# Altium integrated library Linear Technology Operational Amplifiers (LT1000).IntLib: 2280 symbols (part 28 of 79)
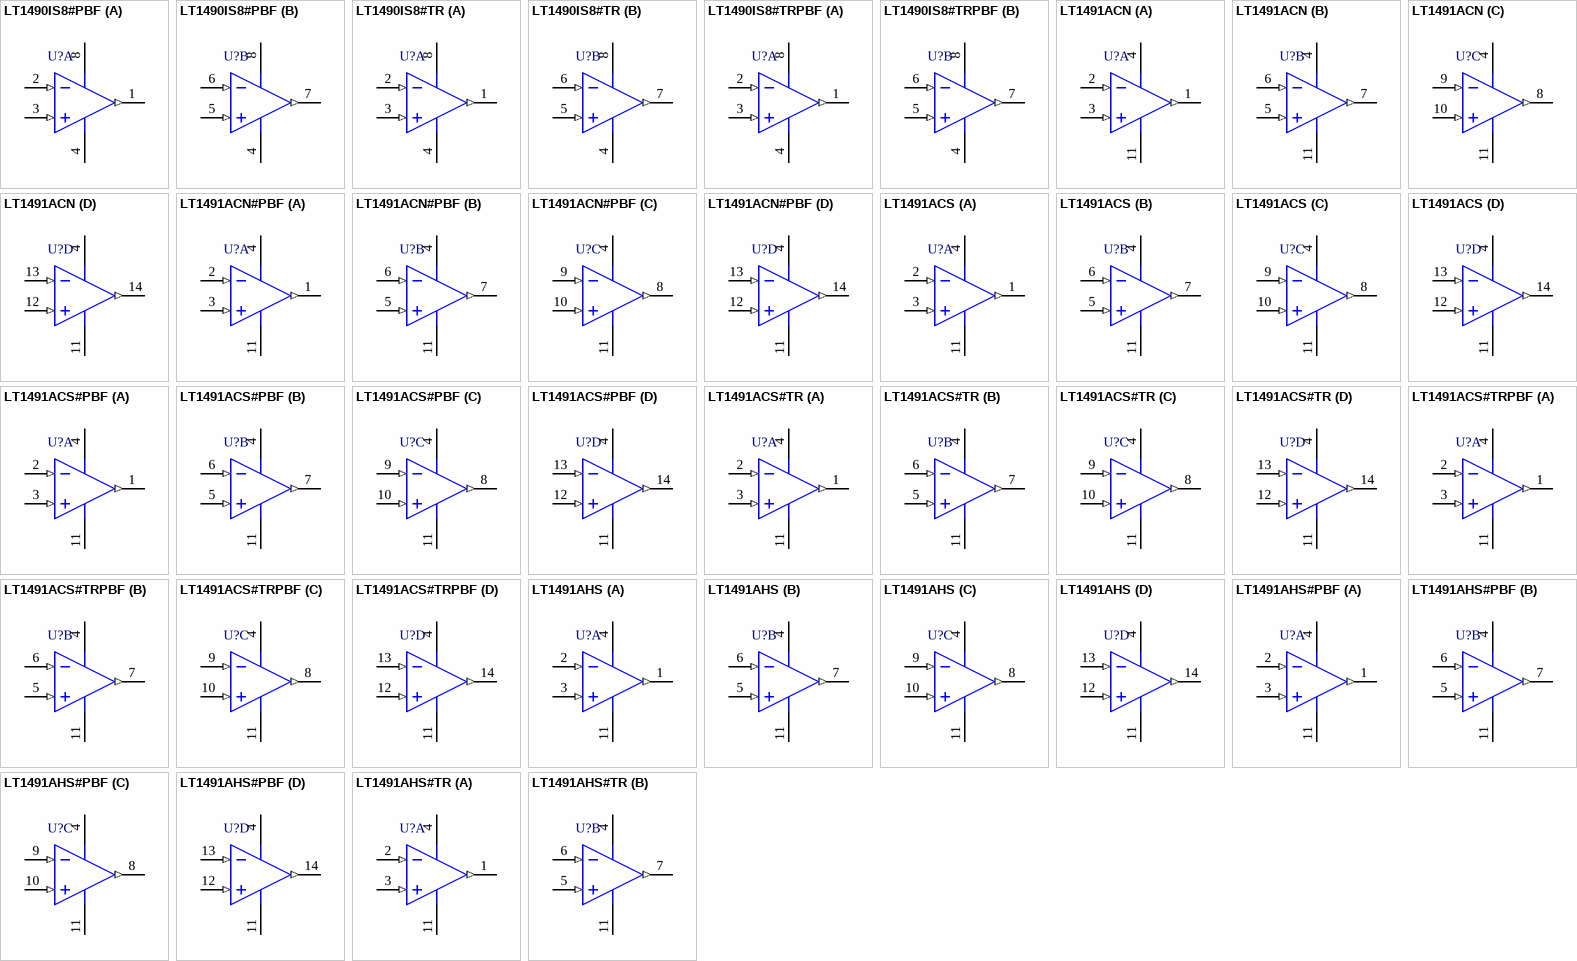
[diagram p132: symbols LT1490IS8#PBF to LT1491AHS#TR]

## LT1490IS8#TRPBF
designator U?
Dual Channel, Operational Amplifier, RRIO, Over-The-Top, 0.18 MHz Typical GBW, 0.06 V/us Typical SR, 2 to 44 V, 8-Pin SOIC (S8-8), Industrial, Pb-Free, Reel; Linear Technology Part Number: LT1490A; Manufacturer: Linear Technology; PartNumber: LT1490IS8#TRPBF; Channels (#): 2; GBW (MHz) Typical: 0.18; Is (mA) Typical: 0.04; SR (V/us) Typical: 0.06; Vos (mV) Typical: 0.11; Vs Max (V): 44; DatasheetVersion: Rev. D; PackageVersion: Rev G; PackageReference: LT-S8-8; PackageDescription: 8-Pin Plastic Small Outline, Body 4.9 x 3.9 mm, Pitch 1.27 mm; Supplier 1: Digi-Key; Supplier Part Number 1: LT1490IS8#TRPBF-ND; Packing: Reel; RoHS: Pb-Free; Type: VFB; Vs Min (V): 2; Mounting Technology: Surface Mount; ComponentLink1Description: Manufacturer URL; ComponentLink1URL: http://www.linear.com/; ComponentLink2Description: Datasheet; ComponentLink2URL: http://cds.linear.com/docs/en/datasheet/14901afd.pdf; ComponentLink3Description: Package Specification; ComponentLink3URL: http://cds.linear.com/docs/en/packaging/05081610_G_SO8.pdf
footprint LT-S8-8_N (SOIC, 8-Leads, Body 4.9x3.9mm, Pitch 1.27mm, IPC Medium Density)
footprint LT-S8-8_L (SOIC, 8-Leads, Body 4.9x3.9mm, Pitch 1.27mm, IPC High Density)
footprint LT-S8-8_M (SOIC, 8-Leads, Body 4.9x3.9mm, Pitch 1.27mm, IPC Low Density)
pins on every part: 4 V- (power), 8 V+ (power)
part A pins: 1 OUT A (out), 2 -IN A (in), 3 +IN A (in)
part B pins: 5 +IN B (in), 6 -IN B (in), 7 OUT B (out)

## LT1491ACN
designator U?
Quad Channel, Operational Amplifier, RRIO, Over-The-Top, 0.18 MHz Typical GBW, 0.06 V/us Typical SR, 2 to 44 V, 14-Pin DIP (N-14), Commercial; Linear Technology Part Number: LT1491A; Manufacturer: Linear Technology; PartNumber: LT1491ACN; Channels (#): 4; GBW (MHz) Typical: 0.18; Is (mA) Typical: 0.04; SR (V/us) Typical: 0.06; Vos (mV) Typical: 0.22; Vs Max (V): 44; Vs Min (V): 2; DatasheetVersion: Rev. D; PackageVersion: Rev I; PackageReference: LT-N-14; PackageDescription: 14-Lead PDIP, Body 19.558 x 6.477 mm, Pitch 2.54 mm; Supplier 1: Digi-Key; Supplier Part Number 1: LT1491ACN-ND; Type: VFB; Mounting Technology: Surface Mount; ComponentLink1Description: Manufacturer URL; ComponentLink1URL: http://www.linear.com/; ComponentLink2Description: Datasheet; ComponentLink2URL: http://cds.linear.com/docs/en/datasheet/14901afd.pdf; ComponentLink3Description: Package Specification; ComponentLink3URL: http://cds.linear.com/docs/en/packaging/05081510_I_N14.pdf
footprint LT-N-14 (DIP, 14-Leads, Body 19.558x6.477mm, Pitch 2.54mm)
pins on every part: 4 V+ (power), 11 V- (power)
part A pins: 1 OUTA (out), 2 -INA (in), 3 +INA (in)
part B pins: 5 +INB (in), 6 -INB (in), 7 OUTB (out)
part C pins: 8 OUTC (out), 9 -INC (in), 10 +INC (in)
part D pins: 12 +IND (in), 13 -IND (in), 14 OUTD (out)

## LT1491ACN#PBF
designator U?
Quad Channel, Operational Amplifier, RRIO, Over-The-Top, 0.18 MHz Typical GBW, 0.06 V/us Typical SR, 2 to 44 V, 14-Pin DIP (N-14), Commercial, Pb-Free; Linear Technology Part Number: LT1491A; Manufacturer: Linear Technology; PartNumber: LT1491ACN#PBF; Channels (#): 4; GBW (MHz) Typical: 0.18; Is (mA) Typical: 0.04; SR (V/us) Typical: 0.06; Vos (mV) Typical: 0.22; Vs Max (V): 44; Vs Min (V): 2; DatasheetVersion: Rev. D; PackageVersion: Rev I; PackageReference: LT-N-14; PackageDescription: 14-Lead PDIP, Body 19.558 x 6.477 mm, Pitch 2.54 mm; Supplier 1: Digi-Key; Supplier Part Number 1: LT1491ACN#PBF-ND; Supplier 2: Farnell; Supplier Part Number 2: 9560556; Supplier 3: Newark; Supplier Part Number 3: 57M4456; RoHS: Pb-Free; Type: VFB; Mounting Technology: Through Hole; ComponentLink1Description: Manufacturer URL; ComponentLink1URL: http://www.linear.com/; ComponentLink2Description: Datasheet; ComponentLink2URL: http://cds.linear.com/docs/en/datasheet/14901afd.pdf; ComponentLink3Description: Package Specification; ComponentLink3URL: http://cds.linear.com/docs/en/packaging/05081510_I_N14.pdf
footprint LT-N-14 (DIP, 14-Leads, Body 19.558x6.477mm, Pitch 2.54mm)
pins on every part: 4 V+ (power), 11 V- (power)
part A pins: 1 OUTA (out), 2 -INA (in), 3 +INA (in)
part B pins: 5 +INB (in), 6 -INB (in), 7 OUTB (out)
part C pins: 8 OUTC (out), 9 -INC (in), 10 +INC (in)
part D pins: 12 +IND (in), 13 -IND (in), 14 OUTD (out)

## LT1491ACS
designator U?
Quad Channel, Operational Amplifier, RRIO, Over-The-Top, 0.18 MHz Typical GBW, 0.06 V/us Typical SR, 2 to 44 V, 14-Pin SOIC (S-14), Commercial; Linear Technology Part Number: LT1491A; Manufacturer: Linear Technology; PartNumber: LT1491ACS; Channels (#): 4; GBW (MHz) Typical: 0.18; Is (mA) Typical: 0.04; SR (V/us) Typical: 0.06; Vos (mV) Typical: 0.22; Vs Max (V): 44; Vs Min (V): 2; DatasheetVersion: Rev. D; PackageVersion: Rev G; PackageReference: LT-S-14; PackageDescription: 14-Lead Plastic Small Outline, Body 8.65 x 3.90 mm, Pitch 1.27 mm; Supplier 1: Digi-Key; Supplier Part Number 1: LT1491ACS-ND; Supplier 2: Newark; Supplier Part Number 2: 57M4457; Type: VFB; Mounting Technology: Surface Mount; ComponentLink1Description: Manufacturer URL; ComponentLink1URL: http://www.linear.com/; ComponentLink2Description: Datasheet; ComponentLink2URL: http://cds.linear.com/docs/en/datasheet/14901afd.pdf; ComponentLink3Description: Package Specification; ComponentLink3URL: http://cds.linear.com/docs/en/packaging/05081610_G_S14.pdf
footprint LT-S-14_N (SOIC, 14-Leads, Body 8.65x3.90mm, Pitch 1.27mm, IPC Medium Density)
footprint LT-S-14_L (SOIC, 14-Leads, Body 8.65x3.90mm, Pitch 1.27mm, IPC High Density)
footprint LT-S-14_M (SOIC, 14-Leads, Body 8.65x3.90mm, Pitch 1.27mm, IPC Low Density)
pins on every part: 4 V+ (power), 11 V- (power)
part A pins: 1 OUT A (out), 2 -IN A (in), 3 +IN A (in)
part B pins: 5 +IN B (in), 6 -IN B (in), 7 OUT B (out)
part C pins: 8 OUT C (out), 9 -IN C (in), 10 +IN C (in)
part D pins: 12 +IN D (in), 13 -IN D (in), 14 OUT D (out)

## LT1491ACS#PBF
designator U?
Quad Channel, Operational Amplifier, RRIO, Over-The-Top, 0.18 MHz Typical GBW, 0.06 V/us Typical SR, 2 to 44 V, 14-Pin SOIC (S-14), Commercial, Pb-Free; Linear Technology Part Number: LT1491A; Manufacturer: Linear Technology; PartNumber: LT1491ACS#PBF; Channels (#): 4; GBW (MHz) Typical: 0.18; Is (mA) Typical: 0.04; SR (V/us) Typical: 0.06; Vos (mV) Typical: 0.22; Vs Max (V): 44; Vs Min (V): 2; DatasheetVersion: Rev. D; PackageVersion: Rev G; PackageReference: LT-S-14; PackageDescription: 14-Lead Plastic Small Outline, Body 8.65 x 3.90 mm, Pitch 1.27 mm; Supplier 1: Digi-Key; Supplier Part Number 1: LT1491ACS#PBF-ND; Supplier 2: Farnell; Supplier Part Number 2: 1330667; Supplier 3: Newark; Supplier Part Number 3: 57M4458; RoHS: Pb-Free; Type: VFB; Mounting Technology: Surface Mount; ComponentLink1Description: Manufacturer URL; ComponentLink1URL: http://www.linear.com/; ComponentLink2Description: Datasheet; ComponentLink2URL: http://cds.linear.com/docs/en/datasheet/14901afd.pdf; ComponentLink3Description: Package Specification; ComponentLink3URL: http://cds.linear.com/docs/en/packaging/05081610_G_S14.pdf
footprint LT-S-14_N (SOIC, 14-Leads, Body 8.65x3.90mm, Pitch 1.27mm, IPC Medium Density)
footprint LT-S-14_L (SOIC, 14-Leads, Body 8.65x3.90mm, Pitch 1.27mm, IPC High Density)
footprint LT-S-14_M (SOIC, 14-Leads, Body 8.65x3.90mm, Pitch 1.27mm, IPC Low Density)
pins on every part: 4 V+ (power), 11 V- (power)
part A pins: 1 OUT A (out), 2 -IN A (in), 3 +IN A (in)
part B pins: 5 +IN B (in), 6 -IN B (in), 7 OUT B (out)
part C pins: 8 OUT C (out), 9 -IN C (in), 10 +IN C (in)
part D pins: 12 +IN D (in), 13 -IN D (in), 14 OUT D (out)

## LT1491ACS#TR
designator U?
Quad Channel, Operational Amplifier, RRIO, Over-The-Top, 0.18 MHz Typical GBW, 0.06 V/us Typical SR, 2 to 44 V, 14-Pin SOIC (S-14), Commercial, Reel; Linear Technology Part Number: LT1491A; Manufacturer: Linear Technology; PartNumber: LT1491ACS#TR; Channels (#): 4; GBW (MHz) Typical: 0.18; Is (mA) Typical: 0.04; SR (V/us) Typical: 0.06; Vos (mV) Typical: 0.22; Vs Max (V): 44; Vs Min (V): 2; DatasheetVersion: Rev. D; PackageVersion: Rev G; PackageReference: LT-S-14; PackageDescription: 14-Lead Plastic Small Outline, Body 8.65 x 3.90 mm, Pitch 1.27 mm; Supplier 1: Digi-Key; Supplier Part Number 1: LT1491ACS#TR-ND; Supplier 2: Newark; Supplier Part Number 2: 57M4459; Packing: Reel; Type: VFB; Mounting Technology: Surface Mount; ComponentLink1Description: Manufacturer URL; ComponentLink1URL: http://www.linear.com/; ComponentLink2Description: Datasheet; ComponentLink2URL: http://cds.linear.com/docs/en/datasheet/14901afd.pdf; ComponentLink3Description: Package Specification; ComponentLink3URL: http://cds.linear.com/docs/en/packaging/05081610_G_S14.pdf
footprint LT-S-14_N (SOIC, 14-Leads, Body 8.65x3.90mm, Pitch 1.27mm, IPC Medium Density)
footprint LT-S-14_L (SOIC, 14-Leads, Body 8.65x3.90mm, Pitch 1.27mm, IPC High Density)
footprint LT-S-14_M (SOIC, 14-Leads, Body 8.65x3.90mm, Pitch 1.27mm, IPC Low Density)
pins on every part: 4 V+ (power), 11 V- (power)
part A pins: 1 OUT A (out), 2 -IN A (in), 3 +IN A (in)
part B pins: 5 +IN B (in), 6 -IN B (in), 7 OUT B (out)
part C pins: 8 OUT C (out), 9 -IN C (in), 10 +IN C (in)
part D pins: 12 +IN D (in), 13 -IN D (in), 14 OUT D (out)

## LT1491ACS#TRPBF
designator U?
Quad Channel, Operational Amplifier, RRIO, Over-The-Top, 0.18 MHz Typical GBW, 0.06 V/us Typical SR, 2 to 44 V, 14-Pin SOIC (S-14), Commercial, Pb-Free, Reel; Linear Technology Part Number: LT1491A; Manufacturer: Linear Technology; PartNumber: LT1491ACS#TRPBF; Channels (#): 4; GBW (MHz) Typical: 0.18; Is (mA) Typical: 0.04; SR (V/us) Typical: 0.06; Vos (mV) Typical: 0.22; Vs Max (V): 44; Vs Min (V): 2; DatasheetVersion: Rev. D; PackageVersion: Rev G; PackageReference: LT-S-14; PackageDescription: 14-Lead Plastic Small Outline, Body 8.65 x 3.90 mm, Pitch 1.27 mm; Supplier 1: Digi-Key; Supplier Part Number 1: LT1491ACS#TRPBF-ND; Supplier 2: Newark; Supplier Part Number 2: 57M4460; Packing: Reel; RoHS: Pb-Free; Type: VFB; Mounting Technology: Surface Mount; ComponentLink1Description: Manufacturer URL; ComponentLink1URL: http://www.linear.com/; ComponentLink2Description: Datasheet; ComponentLink2URL: http://cds.linear.com/docs/en/datasheet/14901afd.pdf; ComponentLink3Description: Package Specification; ComponentLink3URL: http://cds.linear.com/docs/en/packaging/05081610_G_S14.pdf
footprint LT-S-14_N (SOIC, 14-Leads, Body 8.65x3.90mm, Pitch 1.27mm, IPC Medium Density)
footprint LT-S-14_L (SOIC, 14-Leads, Body 8.65x3.90mm, Pitch 1.27mm, IPC High Density)
footprint LT-S-14_M (SOIC, 14-Leads, Body 8.65x3.90mm, Pitch 1.27mm, IPC Low Density)
pins on every part: 4 V+ (power), 11 V- (power)
part A pins: 1 OUT A (out), 2 -IN A (in), 3 +IN A (in)
part B pins: 5 +IN B (in), 6 -IN B (in), 7 OUT B (out)
part C pins: 8 OUT C (out), 9 -IN C (in), 10 +IN C (in)
part D pins: 12 +IN D (in), 13 -IN D (in), 14 OUT D (out)

## LT1491AHS
designator U?
Quad Channel, Operational Amplifier, RRIO, Over-The-Top, 0.18 MHz Typical GBW, 0.06 V/us Typical SR, 2 to 44 V, 14-Pin SOIC (S-14), High Temperature / Automotive; Linear Technology Part Number: LT1491A; Manufacturer: Linear Technology; PartNumber: LT1491AHS; Channels (#): 4; GBW (MHz) Typical: 0.18; Is (mA) Typical: 0.04; SR (V/us) Typical: 0.06; Vos (mV) Typical: 0.22; Vs Max (V): 44; Vs Min (V): 2; DatasheetVersion: Rev. D; PackageVersion: Rev G; PackageReference: LT-S-14; PackageDescription: 14-Lead Plastic Small Outline, Body 8.65 x 3.90 mm, Pitch 1.27 mm; Supplier 1: Digi-Key; Supplier Part Number 1: LT1491AHS-ND; Supplier 2: Newark; Supplier Part Number 2: 57M4461; Type: VFB; Mounting Technology: Surface Mount; ComponentLink1Description: Manufacturer URL; ComponentLink1URL: http://www.linear.com/; ComponentLink2Description: Datasheet; ComponentLink2URL: http://cds.linear.com/docs/en/datasheet/14901afd.pdf; ComponentLink3Description: Package Specification; ComponentLink3URL: http://cds.linear.com/docs/en/packaging/05081610_G_S14.pdf
footprint LT-S-14_N (SOIC, 14-Leads, Body 8.65x3.90mm, Pitch 1.27mm, IPC Medium Density)
footprint LT-S-14_L (SOIC, 14-Leads, Body 8.65x3.90mm, Pitch 1.27mm, IPC High Density)
footprint LT-S-14_M (SOIC, 14-Leads, Body 8.65x3.90mm, Pitch 1.27mm, IPC Low Density)
pins on every part: 4 V+ (power), 11 V- (power)
part A pins: 1 OUT A (out), 2 -IN A (in), 3 +IN A (in)
part B pins: 5 +IN B (in), 6 -IN B (in), 7 OUT B (out)
part C pins: 8 OUT C (out), 9 -IN C (in), 10 +IN C (in)
part D pins: 12 +IN D (in), 13 -IN D (in), 14 OUT D (out)

## LT1491AHS#PBF
designator U?
Quad Channel, Operational Amplifier, RRIO, Over-The-Top, 0.18 MHz Typical GBW, 0.06 V/us Typical SR, 2 to 44 V, 14-Pin SOIC (S-14), High Temperature / Automotive, Pb-Free; Linear Technology Part Number: LT1491A; Manufacturer: Linear Technology; PartNumber: LT1491AHS#PBF; Channels (#): 4; GBW (MHz) Typical: 0.18; Is (mA) Typical: 0.04; SR (V/us) Typical: 0.06; Vos (mV) Typical: 0.22; Vs Max (V): 44; Vs Min (V): 2; DatasheetVersion: Rev. D; PackageVersion: Rev G; PackageReference: LT-S-14; PackageDescription: 14-Lead Plastic Small Outline, Body 8.65 x 3.90 mm, Pitch 1.27 mm; Supplier 1: Digi-Key; Supplier Part Number 1: LT1491AHS#PBF-ND; Supplier 2: Newark; Supplier Part Number 2: 57M4462; RoHS: Pb-Free; Type: VFB; Mounting Technology: Surface Mount; ComponentLink1Description: Manufacturer URL; ComponentLink1URL: http://www.linear.com/; ComponentLink2Description: Datasheet; ComponentLink2URL: http://cds.linear.com/docs/en/datasheet/14901afd.pdf; ComponentLink3Description: Package Specification; ComponentLink3URL: http://cds.linear.com/docs/en/packaging/05081610_G_S14.pdf
footprint LT-S-14_N (SOIC, 14-Leads, Body 8.65x3.90mm, Pitch 1.27mm, IPC Medium Density)
footprint LT-S-14_L (SOIC, 14-Leads, Body 8.65x3.90mm, Pitch 1.27mm, IPC High Density)
footprint LT-S-14_M (SOIC, 14-Leads, Body 8.65x3.90mm, Pitch 1.27mm, IPC Low Density)
pins on every part: 4 V+ (power), 11 V- (power)
part A pins: 1 OUT A (out), 2 -IN A (in), 3 +IN A (in)
part B pins: 5 +IN B (in), 6 -IN B (in), 7 OUT B (out)
part C pins: 8 OUT C (out), 9 -IN C (in), 10 +IN C (in)
part D pins: 12 +IN D (in), 13 -IN D (in), 14 OUT D (out)

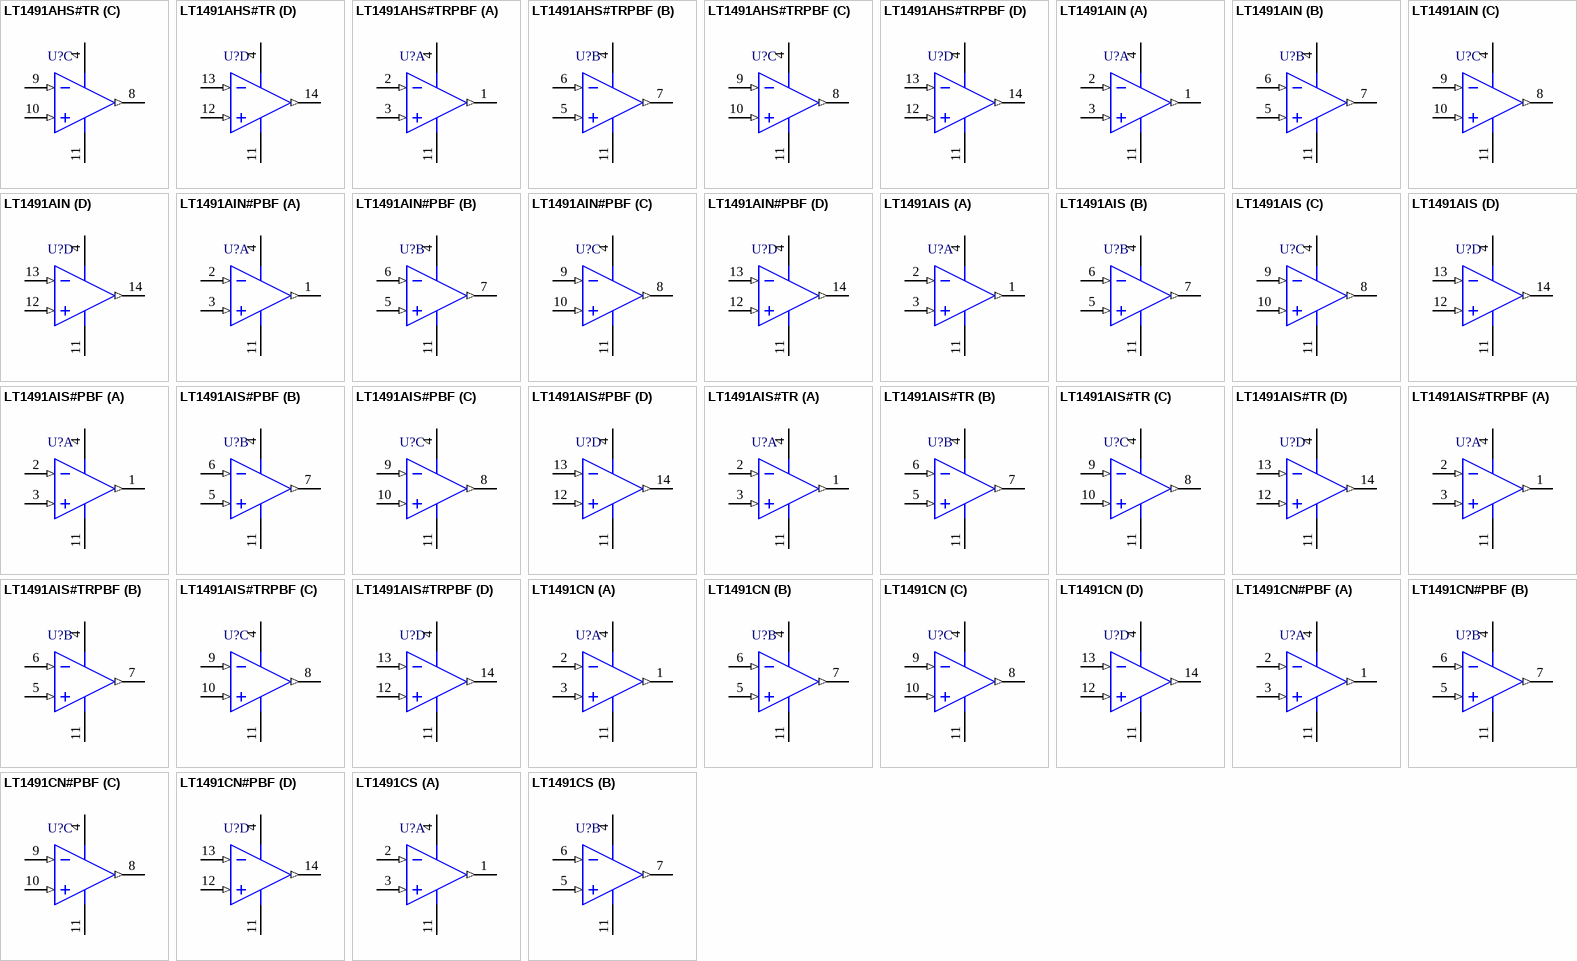
[diagram p46: symbols LT1491AHS#TR to LT1491CS]

## LT1491AHS#TR
designator U?
Quad Channel, Operational Amplifier, RRIO, Over-The-Top, 0.18 MHz Typical GBW, 0.06 V/us Typical SR, 2 to 44 V, 14-Pin SOIC (S-14), High Temperature / Automotive, Reel; Linear Technology Part Number: LT1491A; Manufacturer: Linear Technology; PartNumber: LT1491AHS#TR; Channels (#): 4; GBW (MHz) Typical: 0.18; Is (mA) Typical: 0.04; SR (V/us) Typical: 0.06; Vos (mV) Typical: 0.22; Vs Max (V): 44; Vs Min (V): 2; DatasheetVersion: Rev. D; PackageVersion: Rev G; PackageReference: LT-S-14; PackageDescription: 14-Lead Plastic Small Outline, Body 8.65 x 3.90 mm, Pitch 1.27 mm; Supplier 1: Digi-Key; Supplier Part Number 1: LT1491AHS#TR-ND; Supplier 2: Newark; Supplier Part Number 2: 57M4463; Packing: Reel; Type: VFB; Mounting Technology: Surface Mount; ComponentLink1Description: Manufacturer URL; ComponentLink1URL: http://www.linear.com/; ComponentLink2Description: Datasheet; ComponentLink2URL: http://cds.linear.com/docs/en/datasheet/14901afd.pdf; ComponentLink3Description: Package Specification; ComponentLink3URL: http://cds.linear.com/docs/en/packaging/05081610_G_S14.pdf
footprint LT-S-14_N (SOIC, 14-Leads, Body 8.65x3.90mm, Pitch 1.27mm, IPC Medium Density)
footprint LT-S-14_L (SOIC, 14-Leads, Body 8.65x3.90mm, Pitch 1.27mm, IPC High Density)
footprint LT-S-14_M (SOIC, 14-Leads, Body 8.65x3.90mm, Pitch 1.27mm, IPC Low Density)
pins on every part: 4 V+ (power), 11 V- (power)
part A pins: 1 OUT A (out), 2 -IN A (in), 3 +IN A (in)
part B pins: 5 +IN B (in), 6 -IN B (in), 7 OUT B (out)
part C pins: 8 OUT C (out), 9 -IN C (in), 10 +IN C (in)
part D pins: 12 +IN D (in), 13 -IN D (in), 14 OUT D (out)

## LT1491AHS#TRPBF
designator U?
Quad Channel, Operational Amplifier, RRIO, Over-The-Top, 0.18 MHz Typical GBW, 0.06 V/us Typical SR, 2 to 44 V, 14-Pin SOIC (S-14), High Temperature / Automotive, Pb-Free, Reel; Linear Technology Part Number: LT1491A; Manufacturer: Linear Technology; PartNumber: LT1491AHS#TRPBF; Channels (#): 4; GBW (MHz) Typical: 0.18; Is (mA) Typical: 0.04; SR (V/us) Typical: 0.06; Vos (mV) Typical: 0.22; Vs Max (V): 44; Vs Min (V): 2; DatasheetVersion: Rev. D; PackageVersion: Rev G; PackageReference: LT-S-14; PackageDescription: 14-Lead Plastic Small Outline, Body 8.65 x 3.90 mm, Pitch 1.27 mm; Supplier 1: Digi-Key; Supplier Part Number 1: LT1491AHS#TRPBF-ND; Packing: Reel; RoHS: Pb-Free; Type: VFB; Mounting Technology: Surface Mount; ComponentLink1Description: Manufacturer URL; ComponentLink1URL: http://www.linear.com/; ComponentLink2Description: Datasheet; ComponentLink2URL: http://cds.linear.com/docs/en/datasheet/14901afd.pdf; ComponentLink3Description: Package Specification; ComponentLink3URL: http://cds.linear.com/docs/en/packaging/05081610_G_S14.pdf
footprint LT-S-14_N (SOIC, 14-Leads, Body 8.65x3.90mm, Pitch 1.27mm, IPC Medium Density)
footprint LT-S-14_L (SOIC, 14-Leads, Body 8.65x3.90mm, Pitch 1.27mm, IPC High Density)
footprint LT-S-14_M (SOIC, 14-Leads, Body 8.65x3.90mm, Pitch 1.27mm, IPC Low Density)
pins on every part: 4 V+ (power), 11 V- (power)
part A pins: 1 OUT A (out), 2 -IN A (in), 3 +IN A (in)
part B pins: 5 +IN B (in), 6 -IN B (in), 7 OUT B (out)
part C pins: 8 OUT C (out), 9 -IN C (in), 10 +IN C (in)
part D pins: 12 +IN D (in), 13 -IN D (in), 14 OUT D (out)

## LT1491AIN
designator U?
Quad Channel, Operational Amplifier, RRIO, Over-The-Top, 0.18 MHz Typical GBW, 0.06 V/us Typical SR, 2 to 44 V, 14-Pin DIP (N-14), Industrial; Linear Technology Part Number: LT1491A; Manufacturer: Linear Technology; PartNumber: LT1491AIN; Channels (#): 4; GBW (MHz) Typical: 0.18; Is (mA) Typical: 0.04; SR (V/us) Typical: 0.06; Vos (mV) Typical: 0.22; Vs Max (V): 44; Vs Min (V): 2; DatasheetVersion: Rev. D; PackageVersion: Rev I; PackageReference: LT-N-14; PackageDescription: 14-Lead PDIP, Body 19.558 x 6.477 mm, Pitch 2.54 mm; Supplier 1: Digi-Key; Supplier Part Number 1: LT1491AIN-ND; Type: VFB; Mounting Technology: Surface Mount; ComponentLink1Description: Manufacturer URL; ComponentLink1URL: http://www.linear.com/; ComponentLink2Description: Datasheet; ComponentLink2URL: http://cds.linear.com/docs/en/datasheet/14901afd.pdf; ComponentLink3Description: Package Specification; ComponentLink3URL: http://cds.linear.com/docs/en/packaging/05081510_I_N14.pdf
footprint LT-N-14 (DIP, 14-Leads, Body 19.558x6.477mm, Pitch 2.54mm)
pins on every part: 4 V+ (power), 11 V- (power)
part A pins: 1 OUTA (out), 2 -INA (in), 3 +INA (in)
part B pins: 5 +INB (in), 6 -INB (in), 7 OUTB (out)
part C pins: 8 OUTC (out), 9 -INC (in), 10 +INC (in)
part D pins: 12 +IND (in), 13 -IND (in), 14 OUTD (out)

## LT1491AIN#PBF
designator U?
Quad Channel, Operational Amplifier, RRIO, Over-The-Top, 0.18 MHz Typical GBW, 0.06 V/us Typical SR, 2 to 44 V, 14-Pin DIP (N-14), Industrial, Pb-Free; Linear Technology Part Number: LT1491A; Manufacturer: Linear Technology; PartNumber: LT1491AIN#PBF; Channels (#): 4; GBW (MHz) Typical: 0.18; Is (mA) Typical: 0.04; SR (V/us) Typical: 0.06; Vos (mV) Typical: 0.22; Vs Max (V): 44; Vs Min (V): 2; DatasheetVersion: Rev. D; PackageVersion: Rev I; PackageReference: LT-N-14; PackageDescription: 14-Lead PDIP, Body 19.558 x 6.477 mm, Pitch 2.54 mm; Supplier 1: Digi-Key; Supplier Part Number 1: LT1491AIN#PBF-ND; Supplier 2: Farnell; Supplier Part Number 2: 1136623; Supplier 3: Newark; Supplier Part Number 3: 57M4470; RoHS: Pb-Free; Type: VFB; Mounting Technology: Through Hole; ComponentLink1Description: Manufacturer URL; ComponentLink1URL: http://www.linear.com/; ComponentLink2Description: Datasheet; ComponentLink2URL: http://cds.linear.com/docs/en/datasheet/14901afd.pdf; ComponentLink3Description: Package Specification; ComponentLink3URL: http://cds.linear.com/docs/en/packaging/05081510_I_N14.pdf
footprint LT-N-14 (DIP, 14-Leads, Body 19.558x6.477mm, Pitch 2.54mm)
pins on every part: 4 V+ (power), 11 V- (power)
part A pins: 1 OUTA (out), 2 -INA (in), 3 +INA (in)
part B pins: 5 +INB (in), 6 -INB (in), 7 OUTB (out)
part C pins: 8 OUTC (out), 9 -INC (in), 10 +INC (in)
part D pins: 12 +IND (in), 13 -IND (in), 14 OUTD (out)

## LT1491AIS
designator U?
Quad Channel, Operational Amplifier, RRIO, Over-The-Top, 0.18 MHz Typical GBW, 0.06 V/us Typical SR, 2 to 44 V, 14-Pin SOIC (S-14), Industrial; Linear Technology Part Number: LT1491A; Manufacturer: Linear Technology; PartNumber: LT1491AIS; Channels (#): 4; GBW (MHz) Typical: 0.18; Is (mA) Typical: 0.04; SR (V/us) Typical: 0.06; Vos (mV) Typical: 0.22; Vs Max (V): 44; Vs Min (V): 2; DatasheetVersion: Rev. D; PackageVersion: Rev G; PackageReference: LT-S-14; PackageDescription: 14-Lead Plastic Small Outline, Body 8.65 x 3.90 mm, Pitch 1.27 mm; Supplier 1: Digi-Key; Supplier Part Number 1: LT1491AIS-ND; Type: VFB; Mounting Technology: Surface Mount; ComponentLink1Description: Manufacturer URL; ComponentLink1URL: http://www.linear.com/; ComponentLink2Description: Datasheet; ComponentLink2URL: http://cds.linear.com/docs/en/datasheet/14901afd.pdf; ComponentLink3Description: Package Specification; ComponentLink3URL: http://cds.linear.com/docs/en/packaging/05081610_G_S14.pdf
footprint LT-S-14_N (SOIC, 14-Leads, Body 8.65x3.90mm, Pitch 1.27mm, IPC Medium Density)
footprint LT-S-14_L (SOIC, 14-Leads, Body 8.65x3.90mm, Pitch 1.27mm, IPC High Density)
footprint LT-S-14_M (SOIC, 14-Leads, Body 8.65x3.90mm, Pitch 1.27mm, IPC Low Density)
pins on every part: 4 V+ (power), 11 V- (power)
part A pins: 1 OUTA (out), 2 -INA (in), 3 +INA (in)
part B pins: 5 +INB (in), 6 -INB (in), 7 OUTB (out)
part C pins: 8 OUTC (out), 9 -INC (in), 10 +INC (in)
part D pins: 12 +IND (in), 13 -IND (in), 14 OUTD (out)

## LT1491AIS#PBF
designator U?
Quad Channel, Operational Amplifier, RRIO, Over-The-Top, 0.18 MHz Typical GBW, 0.06 V/us Typical SR, 2 to 44 V, 14-Pin SOIC (S-14), Industrial, Pb-Free; Linear Technology Part Number: LT1491A; Manufacturer: Linear Technology; PartNumber: LT1491AIS#PBF; Channels (#): 4; GBW (MHz) Typical: 0.18; Is (mA) Typical: 0.04; SR (V/us) Typical: 0.06; Vos (mV) Typical: 0.22; Vs Max (V): 44; Vs Min (V): 2; DatasheetVersion: Rev. D; PackageVersion: Rev G; PackageReference: LT-S-14; PackageDescription: 14-Lead Plastic Small Outline, Body 8.65 x 3.90 mm, Pitch 1.27 mm; Supplier 1: Digi-Key; Supplier Part Number 1: LT1491AIS#PBF-ND; Supplier 2: Farnell; Supplier Part Number 2: 2252723; Supplier 3: Newark; Supplier Part Number 3: 57M4472; RoHS: Pb-Free; Type: VFB; Mounting Technology: Surface Mount; ComponentLink1Description: Manufacturer URL; ComponentLink1URL: http://www.linear.com/; ComponentLink2Description: Datasheet; ComponentLink2URL: http://cds.linear.com/docs/en/datasheet/14901afd.pdf; ComponentLink3Description: Package Specification; ComponentLink3URL: http://cds.linear.com/docs/en/packaging/05081610_G_S14.pdf
footprint LT-S-14_N (SOIC, 14-Leads, Body 8.65x3.90mm, Pitch 1.27mm, IPC Medium Density)
footprint LT-S-14_L (SOIC, 14-Leads, Body 8.65x3.90mm, Pitch 1.27mm, IPC High Density)
footprint LT-S-14_M (SOIC, 14-Leads, Body 8.65x3.90mm, Pitch 1.27mm, IPC Low Density)
pins on every part: 4 V+ (power), 11 V- (power)
part A pins: 1 OUT A (out), 2 -IN A (in), 3 +IN A (in)
part B pins: 5 +IN B (in), 6 -IN B (in), 7 OUT B (out)
part C pins: 8 OUT C (out), 9 -IN C (in), 10 +IN C (in)
part D pins: 12 +IN D (in), 13 -IN D (in), 14 OUT D (out)

## LT1491AIS#TR
designator U?
Quad Channel, Operational Amplifier, RRIO, Over-The-Top, 0.18 MHz Typical GBW, 0.06 V/us Typical SR, 2 to 44 V, 14-Pin SOIC (S-14), Industrial, Reel; Linear Technology Part Number: LT1491A; Manufacturer: Linear Technology; PartNumber: LT1491AIS#TR; Channels (#): 4; GBW (MHz) Typical: 0.18; Is (mA) Typical: 0.04; SR (V/us) Typical: 0.06; Vos (mV) Typical: 0.22; Vs Max (V): 44; Vs Min (V): 2; DatasheetVersion: Rev. D; PackageVersion: Rev G; PackageReference: LT-S-14; PackageDescription: 14-Lead Plastic Small Outline, Body 8.65 x 3.90 mm, Pitch 1.27 mm; Supplier 1: Digi-Key; Supplier Part Number 1: LT1491AIS#TR-ND; Packing: Reel; Type: VFB; Mounting Technology: Surface Mount; ComponentLink1Description: Manufacturer URL; ComponentLink1URL: http://www.linear.com/; ComponentLink2Description: Datasheet; ComponentLink2URL: http://cds.linear.com/docs/en/datasheet/14901afd.pdf; ComponentLink3Description: Package Specification; ComponentLink3URL: http://cds.linear.com/docs/en/packaging/05081610_G_S14.pdf
footprint LT-S-14_N (SOIC, 14-Leads, Body 8.65x3.90mm, Pitch 1.27mm, IPC Medium Density)
footprint LT-S-14_L (SOIC, 14-Leads, Body 8.65x3.90mm, Pitch 1.27mm, IPC High Density)
footprint LT-S-14_M (SOIC, 14-Leads, Body 8.65x3.90mm, Pitch 1.27mm, IPC Low Density)
pins on every part: 4 V+ (power), 11 V- (power)
part A pins: 1 OUT A (out), 2 -IN A (in), 3 +IN A (in)
part B pins: 5 +IN B (in), 6 -IN B (in), 7 OUT B (out)
part C pins: 8 OUT C (out), 9 -IN C (in), 10 +IN C (in)
part D pins: 12 +IN D (in), 13 -IN D (in), 14 OUT D (out)

## LT1491AIS#TRPBF
designator U?
Quad Channel, Operational Amplifier, RRIO, Over-The-Top, 0.18 MHz Typical GBW, 0.06 V/us Typical SR, 2 to 44 V, 14-Pin SOIC (S-14), Industrial, Pb-Free, Reel; Linear Technology Part Number: LT1491A; Manufacturer: Linear Technology; PartNumber: LT1491AIS#TRPBF; Channels (#): 4; GBW (MHz) Typical: 0.18; Is (mA) Typical: 0.04; SR (V/us) Typical: 0.06; Vos (mV) Typical: 0.22; Vs Max (V): 44; Vs Min (V): 2; DatasheetVersion: Rev. D; PackageVersion: Rev G; PackageReference: LT-S-14; PackageDescription: 14-Lead Plastic Small Outline, Body 8.65 x 3.90 mm, Pitch 1.27 mm; Supplier 1: Digi-Key; Supplier Part Number 1: LT1491AIS#TRPBF-ND; Packing: Reel; RoHS: Pb-Free; Type: VFB; Mounting Technology: Surface Mount; ComponentLink1Description: Manufacturer URL; ComponentLink1URL: http://www.linear.com/; ComponentLink2Description: Datasheet; ComponentLink2URL: http://cds.linear.com/docs/en/datasheet/14901afd.pdf; ComponentLink3Description: Package Specification; ComponentLink3URL: http://cds.linear.com/docs/en/packaging/05081610_G_S14.pdf
footprint LT-S-14_N (SOIC, 14-Leads, Body 8.65x3.90mm, Pitch 1.27mm, IPC Medium Density)
footprint LT-S-14_L (SOIC, 14-Leads, Body 8.65x3.90mm, Pitch 1.27mm, IPC High Density)
footprint LT-S-14_M (SOIC, 14-Leads, Body 8.65x3.90mm, Pitch 1.27mm, IPC Low Density)
pins on every part: 4 V+ (power), 11 V- (power)
part A pins: 1 OUTA (out), 2 -INA (in), 3 +INA (in)
part B pins: 5 +INB (in), 6 -INB (in), 7 OUTB (out)
part C pins: 8 OUTC (out), 9 -INC (in), 10 +INC (in)
part D pins: 12 +IND (in), 13 -IND (in), 14 OUTD (out)

## LT1491CN
designator U?
Quad Channel, Operational Amplifier, RRIO, Over-The-Top, 0.18 MHz Typical GBW, 0.06 V/us Typical SR, 2 to 44 V, 14-Pin DIP (N-14), Commercial; Linear Technology Part Number: LT1491A; Manufacturer: Linear Technology; PartNumber: LT1491CN; Channels (#): 4; GBW (MHz) Typical: 0.18; Is (mA) Typical: 0.04; SR (V/us) Typical: 0.06; Vos (mV) Typical: 0.22; Vs Max (V): 44; Vs Min (V): 2; DatasheetVersion: Rev. D; PackageVersion: Rev I; PackageReference: LT-N-14; PackageDescription: 14-Lead PDIP, Body 19.558 x 6.477 mm, Pitch 2.54 mm; Supplier 1: Digi-Key; Supplier Part Number 1: LT1491CN-ND; Type: VFB; Mounting Technology: Surface Mount; ComponentLink1Description: Manufacturer URL; ComponentLink1URL: http://www.linear.com/; ComponentLink2Description: Datasheet; ComponentLink2URL: http://cds.linear.com/docs/en/datasheet/14901afd.pdf; ComponentLink3Description: Package Specification; ComponentLink3URL: http://cds.linear.com/docs/en/packaging/05081510_I_N14.pdf
footprint LT-N-14 (DIP, 14-Leads, Body 19.558x6.477mm, Pitch 2.54mm)
pins on every part: 4 V+ (power), 11 V- (power)
part A pins: 1 OUTA (out), 2 -INA (in), 3 +INA (in)
part B pins: 5 +INB (in), 6 -INB (in), 7 OUTB (out)
part C pins: 8 OUTC (out), 9 -INC (in), 10 +INC (in)
part D pins: 12 +IND (in), 13 -IND (in), 14 OUTD (out)

## LT1491CN#PBF
designator U?
Quad Channel, Operational Amplifier, RRIO, Over-The-Top, 0.18 MHz Typical GBW, 0.06 V/us Typical SR, 2 to 44 V, 14-Pin DIP (N-14), Commercial, Pb-Free; Linear Technology Part Number: LT1491A; Manufacturer: Linear Technology; PartNumber: LT1491CN#PBF; Channels (#): 4; GBW (MHz) Typical: 0.18; Is (mA) Typical: 0.04; SR (V/us) Typical: 0.06; Vos (mV) Typical: 0.22; Vs Max (V): 44; Vs Min (V): 2; DatasheetVersion: Rev. D; PackageVersion: Rev I; PackageReference: LT-N-14; PackageDescription: 14-Lead PDIP, Body 19.558 x 6.477 mm, Pitch 2.54 mm; Supplier 1: Digi-Key; Supplier Part Number 1: LT1491CN#PBF-ND; Supplier 2: Newark; Supplier Part Number 2: 57M4476; RoHS: Pb-Free; Type: VFB; Mounting Technology: Through Hole; ComponentLink1Description: Manufacturer URL; ComponentLink1URL: http://www.linear.com/; ComponentLink2Description: Datasheet; ComponentLink2URL: http://cds.linear.com/docs/en/datasheet/14901afd.pdf; ComponentLink3Description: Package Specification; ComponentLink3URL: http://cds.linear.com/docs/en/packaging/05081510_I_N14.pdf
footprint LT-N-14 (DIP, 14-Leads, Body 19.558x6.477mm, Pitch 2.54mm)
pins on every part: 4 V+ (power), 11 V- (power)
part A pins: 1 OUTA (out), 2 -INA (in), 3 +INA (in)
part B pins: 5 +INB (in), 6 -INB (in), 7 OUTB (out)
part C pins: 8 OUTC (out), 9 -INC (in), 10 +INC (in)
part D pins: 12 +IND (in), 13 -IND (in), 14 OUTD (out)

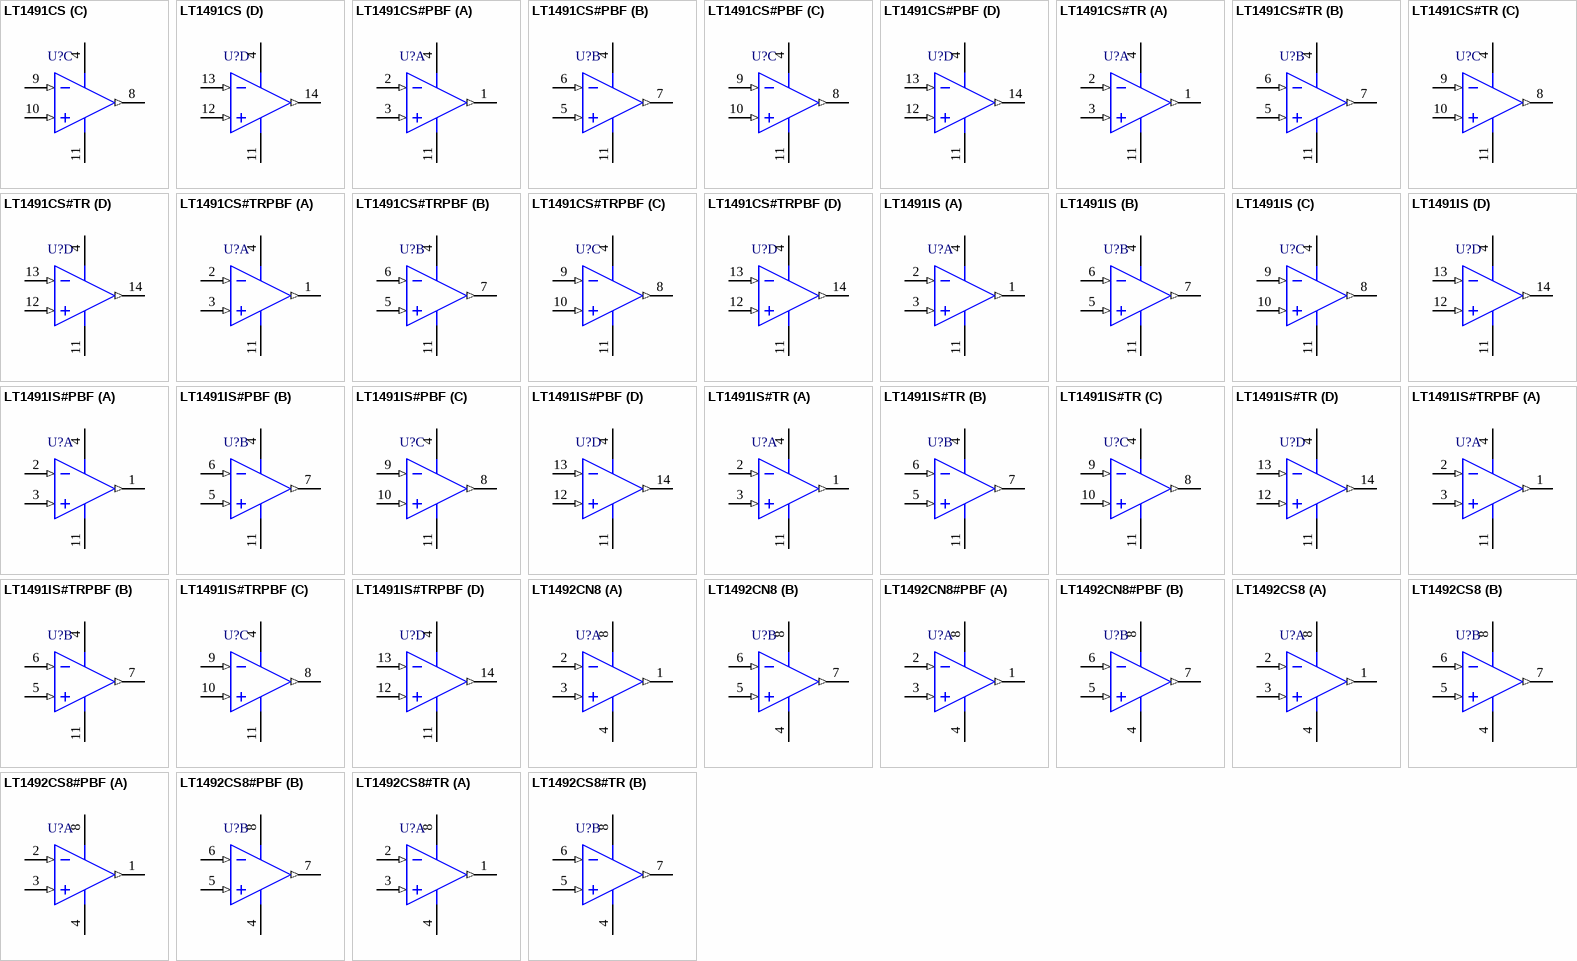
[diagram p47: symbols LT1491CS to LT1492CS8#TR]

## LT1491CS
designator U?
Quad Channel, Operational Amplifier, RRIO, Over-The-Top, 0.18 MHz Typical GBW, 0.06 V/us Typical SR, 2 to 44 V, 14-Pin SOIC (S-14), Commercial; Linear Technology Part Number: LT1491A; Manufacturer: Linear Technology; PartNumber: LT1491CS; Channels (#): 4; GBW (MHz) Typical: 0.18; Is (mA) Typical: 0.04; SR (V/us) Typical: 0.06; Vos (mV) Typical: 0.22; Vs Max (V): 44; Vs Min (V): 2; DatasheetVersion: Rev. D; PackageVersion: Rev G; PackageReference: LT-S-14; PackageDescription: 14-Lead Plastic Small Outline, Body 8.65 x 3.90 mm, Pitch 1.27 mm; Supplier 1: Digi-Key; Supplier Part Number 1: LT1491CS-ND; Supplier 2: Newark; Supplier Part Number 2: 57M4477; Type: VFB; Mounting Technology: Surface Mount; ComponentLink1Description: Manufacturer URL; ComponentLink1URL: http://www.linear.com/; ComponentLink2Description: Datasheet; ComponentLink2URL: http://cds.linear.com/docs/en/datasheet/14901afd.pdf; ComponentLink3Description: Package Specification; ComponentLink3URL: http://cds.linear.com/docs/en/packaging/05081610_G_S14.pdf
footprint LT-S-14_N (SOIC, 14-Leads, Body 8.65x3.90mm, Pitch 1.27mm, IPC Medium Density)
footprint LT-S-14_L (SOIC, 14-Leads, Body 8.65x3.90mm, Pitch 1.27mm, IPC High Density)
footprint LT-S-14_M (SOIC, 14-Leads, Body 8.65x3.90mm, Pitch 1.27mm, IPC Low Density)
pins on every part: 4 V+ (power), 11 V- (power)
part A pins: 1 OUTA (out), 2 -INA (in), 3 +INA (in)
part B pins: 5 +INB (in), 6 -INB (in), 7 OUTB (out)
part C pins: 8 OUTC (out), 9 -INC (in), 10 +INC (in)
part D pins: 12 +IND (in), 13 -IND (in), 14 OUTD (out)

## LT1491CS#PBF
designator U?
Quad Channel, Operational Amplifier, RRIO, Over-The-Top, 0.18 MHz Typical GBW, 0.06 V/us Typical SR, 2 to 44 V, 14-Pin SOIC (S-14), Commercial, Pb-Free; Linear Technology Part Number: LT1491A; Manufacturer: Linear Technology; PartNumber: LT1491CS#PBF; Channels (#): 4; GBW (MHz) Typical: 0.18; Is (mA) Typical: 0.04; SR (V/us) Typical: 0.06; Vos (mV) Typical: 0.22; Vs Max (V): 44; Vs Min (V): 2; DatasheetVersion: Rev. D; PackageVersion: Rev G; PackageReference: LT-S-14; PackageDescription: 14-Lead Plastic Small Outline, Body 8.65 x 3.90 mm, Pitch 1.27 mm; Supplier 1: Digi-Key; Supplier Part Number 1: LT1491CS#PBF-ND; Supplier 2: Farnell; Supplier Part Number 2: 1330668; Supplier 3: Newark; Supplier Part Number 3: 57M4478; RoHS: Pb-Free; Type: VFB; Mounting Technology: Surface Mount; ComponentLink1Description: Manufacturer URL; ComponentLink1URL: http://www.linear.com/; ComponentLink2Description: Datasheet; ComponentLink2URL: http://cds.linear.com/docs/en/datasheet/14901afd.pdf; ComponentLink3Description: Package Specification; ComponentLink3URL: http://cds.linear.com/docs/en/packaging/05081610_G_S14.pdf
footprint LT-S-14_N (SOIC, 14-Leads, Body 8.65x3.90mm, Pitch 1.27mm, IPC Medium Density)
footprint LT-S-14_L (SOIC, 14-Leads, Body 8.65x3.90mm, Pitch 1.27mm, IPC High Density)
footprint LT-S-14_M (SOIC, 14-Leads, Body 8.65x3.90mm, Pitch 1.27mm, IPC Low Density)
pins on every part: 4 V+ (power), 11 V- (power)
part A pins: 1 OUTA (out), 2 -INA (in), 3 +INA (in)
part B pins: 5 +INB (in), 6 -INB (in), 7 OUTB (out)
part C pins: 8 OUTC (out), 9 -INC (in), 10 +INC (in)
part D pins: 12 +IND (in), 13 -IND (in), 14 OUTD (out)

## LT1491CS#TR
designator U?
Quad Channel, Operational Amplifier, RRIO, Over-The-Top, 0.18 MHz Typical GBW, 0.06 V/us Typical SR, 2 to 44 V, 14-Pin SOIC (S-14), Commercial, Reel; Linear Technology Part Number: LT1491A; Manufacturer: Linear Technology; PartNumber: LT1491CS#TR; Channels (#): 4; GBW (MHz) Typical: 0.18; Is (mA) Typical: 0.04; SR (V/us) Typical: 0.06; Vos (mV) Typical: 0.22; Vs Max (V): 44; Vs Min (V): 2; DatasheetVersion: Rev. D; PackageVersion: Rev G; PackageReference: LT-S-14; PackageDescription: 14-Lead Plastic Small Outline, Body 8.65 x 3.90 mm, Pitch 1.27 mm; Packing: Reel; Type: VFB; Mounting Technology: Surface Mount; ComponentLink1Description: Manufacturer URL; ComponentLink1URL: http://www.linear.com/; ComponentLink2Description: Datasheet; ComponentLink2URL: http://cds.linear.com/docs/en/datasheet/14901afd.pdf; ComponentLink3Description: Package Specification; ComponentLink3URL: http://cds.linear.com/docs/en/packaging/05081610_G_S14.pdf
footprint LT-S-14_N (SOIC, 14-Leads, Body 8.65x3.90mm, Pitch 1.27mm, IPC Medium Density)
footprint LT-S-14_L (SOIC, 14-Leads, Body 8.65x3.90mm, Pitch 1.27mm, IPC High Density)
footprint LT-S-14_M (SOIC, 14-Leads, Body 8.65x3.90mm, Pitch 1.27mm, IPC Low Density)
pins on every part: 4 V+ (power), 11 V- (power)
part A pins: 1 OUTA (out), 2 -INA (in), 3 +INA (in)
part B pins: 5 +INB (in), 6 -INB (in), 7 OUTB (out)
part C pins: 8 OUTC (out), 9 -INC (in), 10 +INC (in)
part D pins: 12 +IND (in), 13 -IND (in), 14 OUTD (out)

## LT1491CS#TRPBF
designator U?
Quad Channel, Operational Amplifier, RRIO, Over-The-Top, 0.18 MHz Typical GBW, 0.06 V/us Typical SR, 2 to 44 V, 14-Pin SOIC (S-14), Commercial, Pb-Free, Reel; Linear Technology Part Number: LT1491A; Manufacturer: Linear Technology; PartNumber: LT1491CS#TRPBF; Channels (#): 4; GBW (MHz) Typical: 0.18; Is (mA) Typical: 0.04; SR (V/us) Typical: 0.06; Vos (mV) Typical: 0.22; Vs Max (V): 44; Vs Min (V): 2; DatasheetVersion: Rev. D; PackageVersion: Rev G; PackageReference: LT-S-14; PackageDescription: 14-Lead Plastic Small Outline, Body 8.65 x 3.90 mm, Pitch 1.27 mm; Supplier 1: Digi-Key; Supplier Part Number 1: LT1491CS#TRPBF-ND; Packing: Reel; RoHS: Pb-Free; Type: VFB; Mounting Technology: Surface Mount; ComponentLink1Description: Manufacturer URL; ComponentLink1URL: http://www.linear.com/; ComponentLink2Description: Datasheet; ComponentLink2URL: http://cds.linear.com/docs/en/datasheet/14901afd.pdf; ComponentLink3Description: Package Specification; ComponentLink3URL: http://cds.linear.com/docs/en/packaging/05081610_G_S14.pdf
footprint LT-S-14_N (SOIC, 14-Leads, Body 8.65x3.90mm, Pitch 1.27mm, IPC Medium Density)
footprint LT-S-14_L (SOIC, 14-Leads, Body 8.65x3.90mm, Pitch 1.27mm, IPC High Density)
footprint LT-S-14_M (SOIC, 14-Leads, Body 8.65x3.90mm, Pitch 1.27mm, IPC Low Density)
pins on every part: 4 V+ (power), 11 V- (power)
part A pins: 1 OUTA (out), 2 -INA (in), 3 +INA (in)
part B pins: 5 +INB (in), 6 -INB (in), 7 OUTB (out)
part C pins: 8 OUTC (out), 9 -INC (in), 10 +INC (in)
part D pins: 12 +IND (in), 13 -IND (in), 14 OUTD (out)

## LT1491IS
designator U?
Quad Channel, Operational Amplifier, RRIO, Over-The-Top, 0.18 MHz Typical GBW, 0.06 V/us Typical SR, 2 to 44 V, 14-Pin SOIC (S-14), Industrial; Linear Technology Part Number: LT1491A; Manufacturer: Linear Technology; PartNumber: LT1491IS; Channels (#): 4; GBW (MHz) Typical: 0.18; Is (mA) Typical: 0.04; SR (V/us) Typical: 0.06; Vos (mV) Typical: 0.22; Vs Max (V): 44; Vs Min (V): 2; DatasheetVersion: Rev. D; PackageVersion: Rev G; PackageReference: LT-S-14; PackageDescription: 14-Lead Plastic Small Outline, Body 8.65 x 3.90 mm, Pitch 1.27 mm; Supplier 1: Digi-Key; Supplier Part Number 1: LT1491IS-ND; Type: VFB; Mounting Technology: Surface Mount; ComponentLink1Description: Manufacturer URL; ComponentLink1URL: http://www.linear.com/; ComponentLink2Description: Datasheet; ComponentLink2URL: http://cds.linear.com/docs/en/datasheet/14901afd.pdf; ComponentLink3Description: Package Specification; ComponentLink3URL: http://cds.linear.com/docs/en/packaging/05081610_G_S14.pdf
footprint LT-S-14_N (SOIC, 14-Leads, Body 8.65x3.90mm, Pitch 1.27mm, IPC Medium Density)
footprint LT-S-14_L (SOIC, 14-Leads, Body 8.65x3.90mm, Pitch 1.27mm, IPC High Density)
footprint LT-S-14_M (SOIC, 14-Leads, Body 8.65x3.90mm, Pitch 1.27mm, IPC Low Density)
pins on every part: 4 V+ (power), 11 V- (power)
part A pins: 1 OUT A (out), 2 -IN A (in), 3 +IN A (in)
part B pins: 5 +IN B (in), 6 -IN B (in), 7 OUT B (out)
part C pins: 8 OUT C (out), 9 -IN C (in), 10 +IN C (in)
part D pins: 12 +IN D (in), 13 -IN D (in), 14 OUT D (out)

## LT1491IS#PBF
designator U?
Quad Channel, Operational Amplifier, RRIO, Over-The-Top, 0.18 MHz Typical GBW, 0.06 V/us Typical SR, 2 to 44 V, 14-Pin SOIC (S-14), Industrial, Pb-Free; Linear Technology Part Number: LT1491A; Manufacturer: Linear Technology; PartNumber: LT1491IS#PBF; Channels (#): 4; GBW (MHz) Typical: 0.18; Is (mA) Typical: 0.04; SR (V/us) Typical: 0.06; Vos (mV) Typical: 0.22; Vs Max (V): 44; Vs Min (V): 2; DatasheetVersion: Rev. D; PackageVersion: Rev G; PackageReference: LT-S-14; PackageDescription: 14-Lead Plastic Small Outline, Body 8.65 x 3.90 mm, Pitch 1.27 mm; Supplier 1: Digi-Key; Supplier Part Number 1: LT1491IS#PBF-ND; RoHS: Pb-Free; Type: VFB; Mounting Technology: Surface Mount; ComponentLink1Description: Manufacturer URL; ComponentLink1URL: http://www.linear.com/; ComponentLink2Description: Datasheet; ComponentLink2URL: http://cds.linear.com/docs/en/datasheet/14901afd.pdf; ComponentLink3Description: Package Specification; ComponentLink3URL: http://cds.linear.com/docs/en/packaging/05081610_G_S14.pdf
footprint LT-S-14_N (SOIC, 14-Leads, Body 8.65x3.90mm, Pitch 1.27mm, IPC Medium Density)
footprint LT-S-14_L (SOIC, 14-Leads, Body 8.65x3.90mm, Pitch 1.27mm, IPC High Density)
footprint LT-S-14_M (SOIC, 14-Leads, Body 8.65x3.90mm, Pitch 1.27mm, IPC Low Density)
pins on every part: 4 V+ (power), 11 V- (power)
part A pins: 1 OUT A (out), 2 -IN A (in), 3 +IN A (in)
part B pins: 5 +IN B (in), 6 -IN B (in), 7 OUT B (out)
part C pins: 8 OUT C (out), 9 -IN C (in), 10 +IN C (in)
part D pins: 12 +IN D (in), 13 -IN D (in), 14 OUT D (out)

## LT1491IS#TR
designator U?
Quad Channel, Operational Amplifier, RRIO, Over-The-Top, 0.18 MHz Typical GBW, 0.06 V/us Typical SR, 2 to 44 V, 14-Pin SOIC (S-14), Industrial, Reel; Linear Technology Part Number: LT1491A; Manufacturer: Linear Technology; PartNumber: LT1491IS#TR; Channels (#): 4; GBW (MHz) Typical: 0.18; Is (mA) Typical: 0.04; SR (V/us) Typical: 0.06; Vos (mV) Typical: 0.22; Vs Max (V): 44; Vs Min (V): 2; DatasheetVersion: Rev. D; PackageVersion: Rev G; PackageReference: LT-S-14; PackageDescription: 14-Lead Plastic Small Outline, Body 8.65 x 3.90 mm, Pitch 1.27 mm; Packing: Reel; Type: VFB; Mounting Technology: Surface Mount; ComponentLink1Description: Manufacturer URL; ComponentLink1URL: http://www.linear.com/; ComponentLink2Description: Datasheet; ComponentLink2URL: http://cds.linear.com/docs/en/datasheet/14901afd.pdf; ComponentLink3Description: Package Specification; ComponentLink3URL: http://cds.linear.com/docs/en/packaging/05081610_G_S14.pdf
footprint LT-S-14_N (SOIC, 14-Leads, Body 8.65x3.90mm, Pitch 1.27mm, IPC Medium Density)
footprint LT-S-14_L (SOIC, 14-Leads, Body 8.65x3.90mm, Pitch 1.27mm, IPC High Density)
footprint LT-S-14_M (SOIC, 14-Leads, Body 8.65x3.90mm, Pitch 1.27mm, IPC Low Density)
pins on every part: 4 V+ (power), 11 V- (power)
part A pins: 1 OUT A (out), 2 -IN A (in), 3 +IN A (in)
part B pins: 5 +IN B (in), 6 -IN B (in), 7 OUT B (out)
part C pins: 8 OUT C (out), 9 -IN C (in), 10 +IN C (in)
part D pins: 12 +IN D (in), 13 -IN D (in), 14 OUT D (out)

## LT1491IS#TRPBF
designator U?
Quad Channel, Operational Amplifier, RRIO, Over-The-Top, 0.18 MHz Typical GBW, 0.06 V/us Typical SR, 2 to 44 V, 14-Pin SOIC (S-14), Industrial, Pb-Free, Reel; Linear Technology Part Number: LT1491A; Manufacturer: Linear Technology; PartNumber: LT1491IS#TRPBF; Channels (#): 4; GBW (MHz) Typical: 0.18; Is (mA) Typical: 0.04; SR (V/us) Typical: 0.06; Vos (mV) Typical: 0.22; Vs Max (V): 44; Vs Min (V): 2; DatasheetVersion: Rev. D; PackageVersion: Rev G; PackageReference: LT-S-14; PackageDescription: 14-Lead Plastic Small Outline, Body 8.65 x 3.90 mm, Pitch 1.27 mm; Supplier 1: Digi-Key; Supplier Part Number 1: LT1491IS#TRPBF-ND; Packing: Reel; RoHS: Pb-Free; Type: VFB; Mounting Technology: Surface Mount; ComponentLink1Description: Manufacturer URL; ComponentLink1URL: http://www.linear.com/; ComponentLink2Description: Datasheet; ComponentLink2URL: http://cds.linear.com/docs/en/datasheet/14901afd.pdf; ComponentLink3Description: Package Specification; ComponentLink3URL: http://cds.linear.com/docs/en/packaging/05081610_G_S14.pdf
footprint LT-S-14_N (SOIC, 14-Leads, Body 8.65x3.90mm, Pitch 1.27mm, IPC Medium Density)
footprint LT-S-14_L (SOIC, 14-Leads, Body 8.65x3.90mm, Pitch 1.27mm, IPC High Density)
footprint LT-S-14_M (SOIC, 14-Leads, Body 8.65x3.90mm, Pitch 1.27mm, IPC Low Density)
pins on every part: 4 V+ (power), 11 V- (power)
part A pins: 1 OUT A (out), 2 -IN A (in), 3 +IN A (in)
part B pins: 5 +IN B (in), 6 -IN B (in), 7 OUT B (out)
part C pins: 8 OUT C (out), 9 -IN C (in), 10 +IN C (in)
part D pins: 12 +IN D (in), 13 -IN D (in), 14 OUT D (out)

## LT1492CN8
designator U?
Dual Channel, Precision Single Supply Operational Amplifier, 4.5 MHz Typical GBW, 1.8 V/us Typical SR, 2.1 to 36 V, 8-Pin DIP (N8-8), Commerical; Linear Technology Part Number: LT1492; Manufacturer: Linear Technology; PartNumber: LT1492CN8; Channels (#): 2; GBW (MHz) Typical: 4.5; Is (mA) Typical: 0.425; SR (V/us) Typical: 1.8; Vos (mV) Typical: 0.1; Vs Max (V): 36; Vs Min (V): 2.1; PackageVersion: Rev I; PackageReference: LT-N8-8; PackageDescription: 8-Lead PDIP, Body 10.16 x 6.48 mm, Pitch 2.54 mm; Supplier 1: Digi-Key; Supplier Part Number 1: LT1492CN8-ND; Type: VFB; Mounting Technology: Surface Mount; ComponentLink1Description: Manufacturer URL; ComponentLink1URL: http://www.linear.com/; ComponentLink2Description: Datasheet; ComponentLink2URL: http://cds.linear.com/docs/en/datasheet/14923f.pdf; ComponentLink3Description: Package Specification; ComponentLink3URL: http://cds.linear.com/docs/en/packaging/05081510_I_N8.pdf
footprint LT-N8-8 (DIP, 8-Leads, Body 10.16x6.48mm, Pitch 2.54mm)
pins on every part: 4 V- (power), 8 V+ (power)
part A pins: 1 OUT A (out), 2 -IN A (in), 3 +IN A (in)
part B pins: 5 +IN B (in), 6 -IN B (in), 7 OUT B (out)

## LT1492CN8#PBF
designator U?
Dual Channel, Precision Single Supply Operational Amplifier, 4.5 MHz Typical GBW, 1.8 V/us Typical SR, 2.1 to 36 V, 8-Pin DIP (N8-8), Commerical, Pb-Free; Linear Technology Part Number: LT1492; Manufacturer: Linear Technology; PartNumber: LT1492CN8#PBF; Channels (#): 2; GBW (MHz) Typical: 4.5; Is (mA) Typical: 0.425; SR (V/us) Typical: 1.8; Vos (mV) Typical: 0.1; Vs Max (V): 36; Vs Min (V): 2.1; PackageVersion: Rev I; PackageReference: LT-N8-8; PackageDescription: 8-Lead PDIP, Body 10.16 x 6.48 mm, Pitch 2.54 mm; Supplier 1: Digi-Key; Supplier Part Number 1: LT1492CN8#PBF-ND; Supplier 2: Farnell; Supplier Part Number 2: 1330669; Supplier 3: Newark; Supplier Part Number 3: 57M4486; RoHS: Pb-Free; Type: VFB; Mounting Technology: Through Hole; ComponentLink1Description: Manufacturer URL; ComponentLink1URL: http://www.linear.com/; ComponentLink2Description: Datasheet; ComponentLink2URL: http://cds.linear.com/docs/en/datasheet/14923f.pdf; ComponentLink3Description: Package Specification; ComponentLink3URL: http://cds.linear.com/docs/en/packaging/05081510_I_N8.pdf
footprint LT-N8-8 (DIP, 8-Leads, Body 10.16x6.48mm, Pitch 2.54mm)
pins on every part: 4 V- (power), 8 V+ (power)
part A pins: 1 OUT A (out), 2 -IN A (in), 3 +IN A (in)
part B pins: 5 +IN B (in), 6 -IN B (in), 7 OUT B (out)

## LT1492CS8
designator U?
Dual Channel, Precision Single Supply Operational Amplifier, 4.5 MHz Typical GBW, 1.8 V/us Typical SR, 2.1 to 36 V, 8-Pin SOIC (S8-8), Commerical; Linear Technology Part Number: LT1492; Manufacturer: Linear Technology; PartNumber: LT1492CS8; Channels (#): 2; GBW (MHz) Typical: 4.5; Is (mA) Typical: 0.425; SR (V/us) Typical: 1.8; Vos (mV) Typical: 0.1; Vs Max (V): 36; Vs Min (V): 2.1; PackageVersion: Rev G; PackageReference: LT-S8-8; PackageDescription: 8-Pin Plastic Small Outline, Body 4.9 x 3.9 mm, Pitch 1.27 mm; Supplier 1: Digi-Key; Supplier Part Number 1: LT1492CS8-ND; Supplier 2: Newark; Supplier Part Number 2: 57M4487; Type: VFB; Mounting Technology: Surface Mount; ComponentLink1Description: Manufacturer URL; ComponentLink1URL: http://www.linear.com/; ComponentLink2Description: Datasheet; ComponentLink2URL: http://cds.linear.com/docs/en/datasheet/14923f.pdf; ComponentLink3Description: Package Specification; ComponentLink3URL: http://cds.linear.com/docs/en/packaging/05081610_G_SO8.pdf
footprint LT-S8-8_N (SOIC, 8-Leads, Body 4.9x3.9mm, Pitch 1.27mm, IPC Medium Density)
footprint LT-S8-8_L (SOIC, 8-Leads, Body 4.9x3.9mm, Pitch 1.27mm, IPC High Density)
footprint LT-S8-8_M (SOIC, 8-Leads, Body 4.9x3.9mm, Pitch 1.27mm, IPC Low Density)
pins on every part: 4 V- (power), 8 V+ (power)
part A pins: 1 OUT A (out), 2 -IN A (in), 3 +IN A (in)
part B pins: 5 +IN B (in), 6 -IN B (in), 7 OUT B (out)

## LT1492CS8#PBF
designator U?
Dual Channel, Precision Single Supply Operational Amplifier, 4.5 MHz Typical GBW, 1.8 V/us Typical SR, 2.1 to 36 V, 8-Pin SOIC (S8-8), Commerical, Pb-Free; Linear Technology Part Number: LT1492; Manufacturer: Linear Technology; PartNumber: LT1492CS8#PBF; Channels (#): 2; GBW (MHz) Typical: 4.5; Is (mA) Typical: 0.425; SR (V/us) Typical: 1.8; Vos (mV) Typical: 0.1; Vs Max (V): 36; Vs Min (V): 2.1; PackageVersion: Rev G; PackageReference: LT-S8-8; PackageDescription: 8-Pin Plastic Small Outline, Body 4.9 x 3.9 mm, Pitch 1.27 mm; Supplier 1: Digi-Key; Supplier Part Number 1: LT1492CS8#PBF-ND; Supplier 2: Farnell; Supplier Part Number 2: 2252724; Supplier 3: Newark; Supplier Part Number 3: 57M4488; RoHS: Pb-Free; Type: VFB; Mounting Technology: Surface Mount; ComponentLink1Description: Manufacturer URL; ComponentLink1URL: http://www.linear.com/; ComponentLink2Description: Datasheet; ComponentLink2URL: http://cds.linear.com/docs/en/datasheet/14923f.pdf; ComponentLink3Description: Package Specification; ComponentLink3URL: http://cds.linear.com/docs/en/packaging/05081610_G_SO8.pdf
footprint LT-S8-8_N (SOIC, 8-Leads, Body 4.9x3.9mm, Pitch 1.27mm, IPC Medium Density)
footprint LT-S8-8_L (SOIC, 8-Leads, Body 4.9x3.9mm, Pitch 1.27mm, IPC High Density)
footprint LT-S8-8_M (SOIC, 8-Leads, Body 4.9x3.9mm, Pitch 1.27mm, IPC Low Density)
pins on every part: 4 V- (power), 8 V+ (power)
part A pins: 1 OUT A (out), 2 -IN A (in), 3 +IN A (in)
part B pins: 5 +IN B (in), 6 -IN B (in), 7 OUT B (out)

## LT1492CS8#TR
designator U?
Dual Channel, Precision Single Supply Operational Amplifier, 4.5 MHz Typical GBW, 1.8 V/us Typical SR, 2.1 to 36 V, 8-Pin SOIC (S8-8), Commerical, Reel; Linear Technology Part Number: LT1492; Manufacturer: Linear Technology; PartNumber: LT1492CS8#TR; Channels (#): 2; GBW (MHz) Typical: 4.5; Is (mA) Typical: 0.425; SR (V/us) Typical: 1.8; Vos (mV) Typical: 0.1; Vs Max (V): 36; Vs Min (V): 2.1; PackageVersion: Rev G; PackageReference: LT-S8-8; PackageDescription: 8-Pin Plastic Small Outline, Body 4.9 x 3.9 mm, Pitch 1.27 mm; Supplier 1: Digi-Key; Supplier Part Number 1: LT1492CS8#TR-ND; Packing: Reel; Type: VFB; Mounting Technology: Surface Mount; ComponentLink1Description: Manufacturer URL; ComponentLink1URL: http://www.linear.com/; ComponentLink2Description: Datasheet; ComponentLink2URL: http://cds.linear.com/docs/en/datasheet/14923f.pdf; ComponentLink3Description: Package Specification; ComponentLink3URL: http://cds.linear.com/docs/en/packaging/05081610_G_SO8.pdf
footprint LT-S8-8_N (SOIC, 8-Leads, Body 4.9x3.9mm, Pitch 1.27mm, IPC Medium Density)
footprint LT-S8-8_L (SOIC, 8-Leads, Body 4.9x3.9mm, Pitch 1.27mm, IPC High Density)
footprint LT-S8-8_M (SOIC, 8-Leads, Body 4.9x3.9mm, Pitch 1.27mm, IPC Low Density)
pins on every part: 4 V- (power), 8 V+ (power)
part A pins: 1 OUT A (out), 2 -IN A (in), 3 +IN A (in)
part B pins: 5 +IN B (in), 6 -IN B (in), 7 OUT B (out)

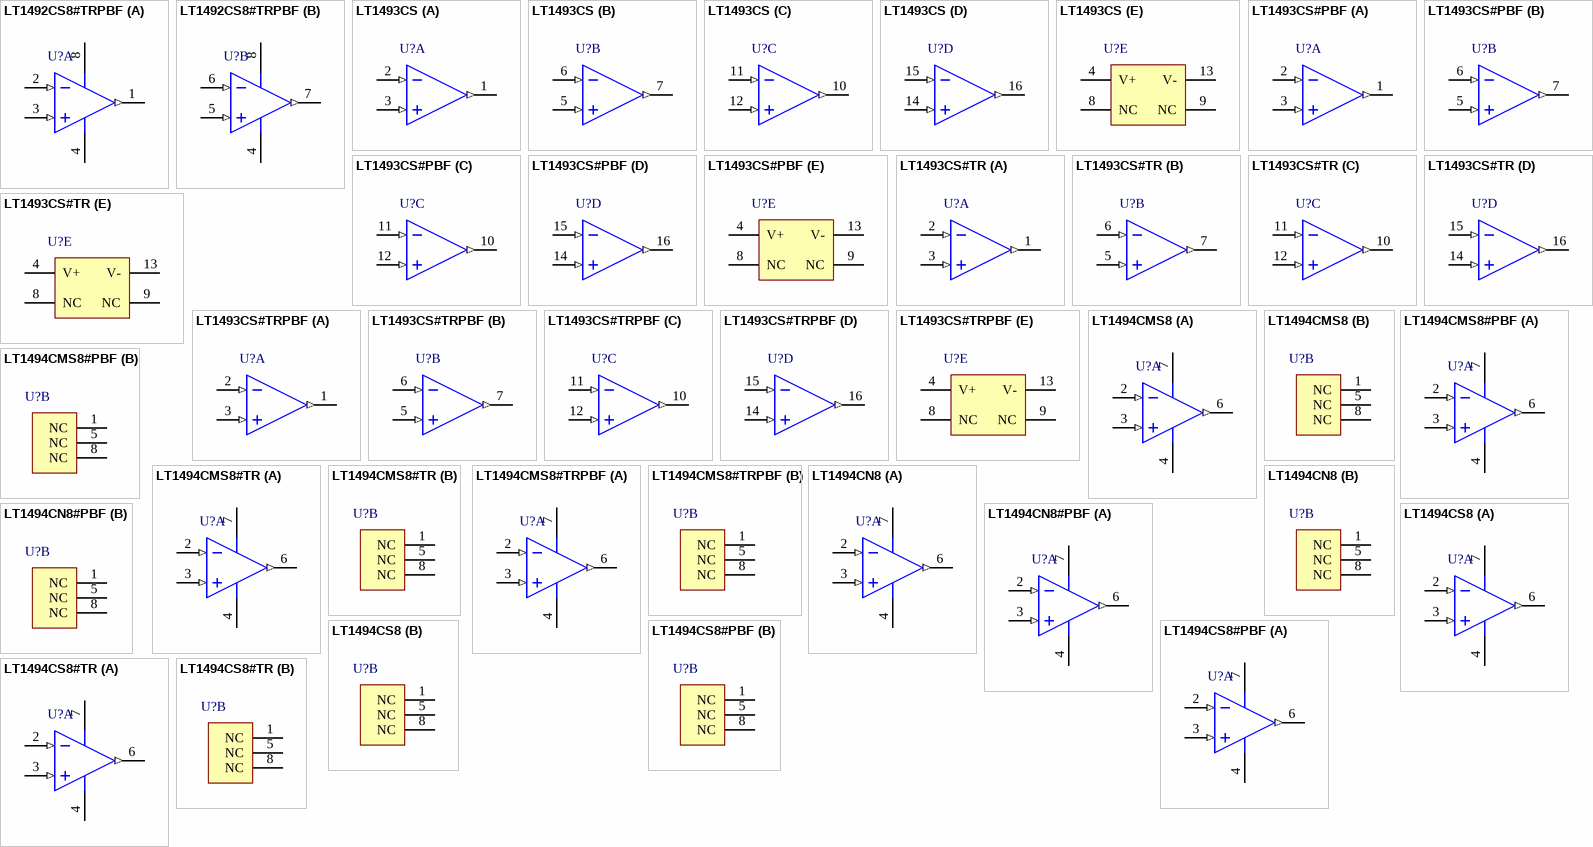
[diagram p48: symbols LT1492CS8#TRPBF to LT1494CS8#TR]